# Altium integrated library GTC.IntLib: 39 symbols
Pins are listed as number, name and electrical type; pins without a type are passive.

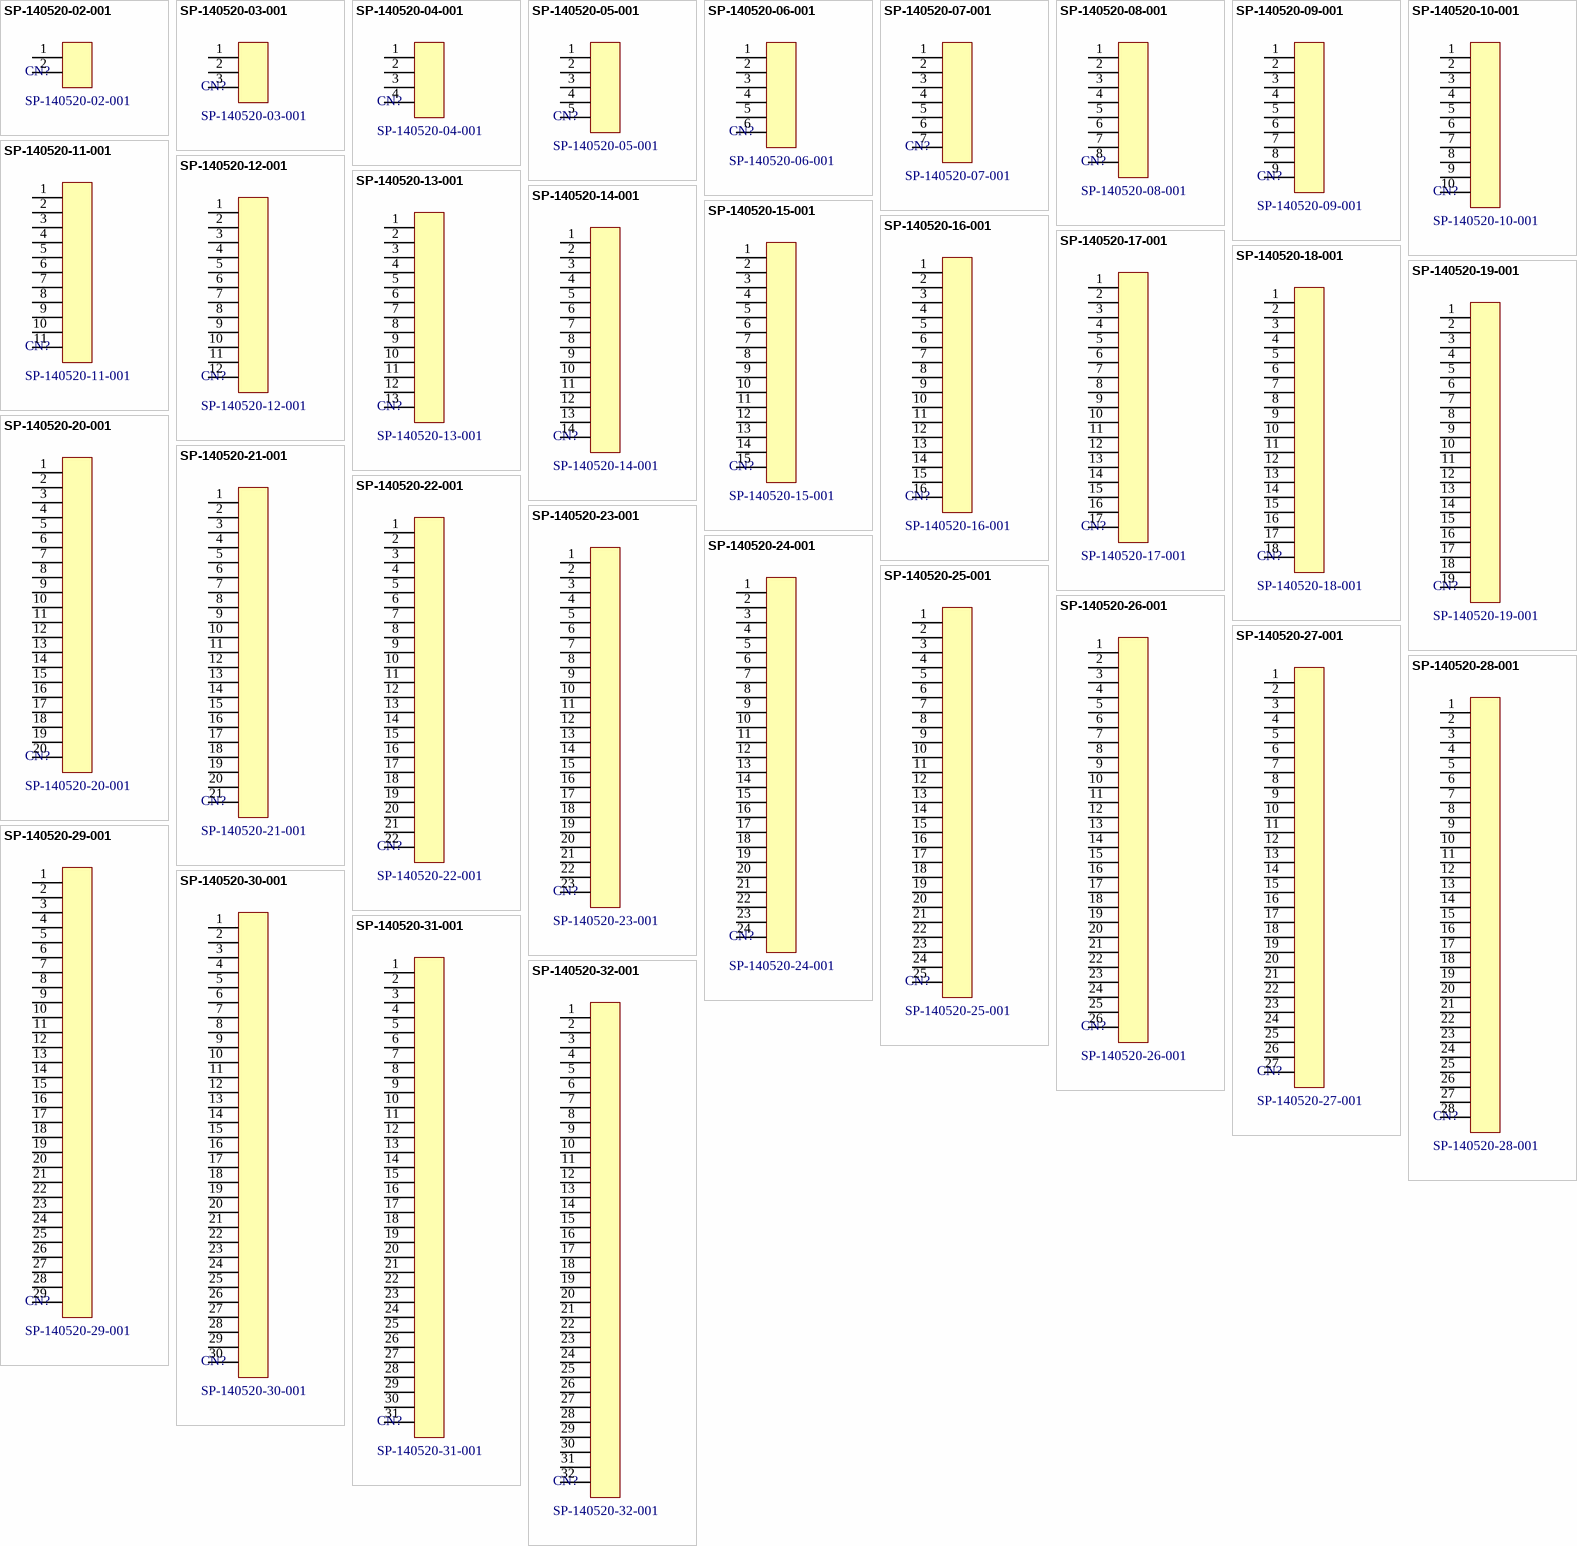
[diagram p0: symbols SP-140520-02-001 to SP-140520-32-001]

## SP-140520-02-001
designator CN?
2.54mm Pitch Socket, Single Row, Straight
footprint SP-140520-02-001 (CONN Breakaway Single Row)
pins: 1, 2

## SP-140520-03-001
designator CN?
2.54mm Pitch Socket, Single Row, Straight
footprint SP-140520-03-001 (CONN Breakaway Single Row)
pins: 1, 2, 3

## SP-140520-04-001
designator CN?
2.54mm Pitch Socket, Single Row, Straight
footprint SP-140520-04-001 (CONN Breakaway Single Row)
pins: 1, 2, 3, 4

## SP-140520-05-001
designator CN?
2.54mm Pitch Socket, Single Row, Straight
footprint SP-140520-05-001 (2.54mm Pitch Socket, Single Row, Straight)
pins: 1, 2, 3, 4, 5

## SP-140520-06-001
designator CN?
2.54mm Pitch Socket, Single Row, Straight
footprint SP-140520-06-001 (2.54mm Pitch Socket, Single Row, Straight)
pins: 1, 2, 3, 4, 5, 6

## SP-140520-07-001
designator CN?
2.54mm Pitch Socket, Single Row, Straight
footprint SP-140520-07-001 (2.54mm Pitch Socket, Single Row, Straight)
pins: 1, 2, 3, 4, 5, 6, 7

## SP-140520-08-001
designator CN?
2.54mm Pitch Socket, Single Row, Straight
footprint SP-140520-08-001 (2.54mm Pitch Socket, Single Row, Straight)
pins: 1, 2, 3, 4, 5, 6, 7, 8

## SP-140520-09-001
designator CN?
2.54mm Pitch Socket, Single Row, Straight
footprint SP-140520-09-001 (2.54mm Pitch Socket, Single Row, Straight)
pins: 1, 2, 3, 4, 5, 6, 7, 8, 9

## SP-140520-10-001
designator CN?
2.54mm Pitch Socket, Single Row, Straight
footprint SP-140520-10-001 (2.54mm Pitch Socket, Single Row, Straight)
pins: 1, 2, 3, 4, 5, 6, 7, 8, 9, 10

## SP-140520-11-001
designator CN?
2.54mm Pitch Socket, Single Row, Straight
footprint SP-140520-11-001 (2.54mm Pitch Socket, Single Row, Straight)
pins: 1, 2, 3, 4, 5, 6, 7, 8, 9, 10, 11

## SP-140520-12-001
designator CN?
2.54mm Pitch Socket, Single Row, Straight
footprint SP-140520-12-001 (2.54mm Pitch Socket, Single Row, Straight)
pins: 1, 2, 3, 4, 5, 6, 7, 8, 9, 10, 11, 12

## SP-140520-13-001
designator CN?
2.54mm Pitch Socket, Single Row, Straight
footprint SP-140520-13-001 (2.54mm Pitch Socket, Single Row, Straight)
pins: 1, 2, 3, 4, 5, 6, 7, 8, 9, 10, 11, 12, 13

## SP-140520-14-001
designator CN?
2.54mm Pitch Socket, Single Row, Straight
footprint SP-140520-14-001 (2.54mm Pitch Socket, Single Row, Straight)
pins: 1, 2, 3, 4, 5, 6, 7, 8, 9, 10, 11, 12, 13, 14

## SP-140520-15-001
designator CN?
2.54mm Pitch Socket, Single Row, Straight
footprint SP-140520-15-001 (2.54mm Pitch Socket, Single Row, Straight)
pins: 1, 2, 3, 4, 5, 6, 7, 8, 9, 10, 11, 12, 13, 14, 15

## SP-140520-16-001
designator CN?
2.54mm Pitch Socket, Single Row, Straight
footprint SP-140520-16-001 (2.54mm Pitch Socket, Single Row, Straight)
pins: 1, 2, 3, 4, 5, 6, 7, 8, 9, 10, 11, 12, 13, 14, 15, 16

## SP-140520-17-001
designator CN?
2.54mm Pitch Socket, Single Row, Straight
footprint SP-140520-17-001 (2.54mm Pitch Socket, Single Row, Straight)
pins: 1, 2, 3, 4, 5, 6, 7, 8, 9, 10, 11, 12, 13, 14, 15, 16, 17

## SP-140520-18-001
designator CN?
2.54mm Pitch Socket, Single Row, Straight
footprint SP-140520-18-001 (2.54mm Pitch Socket, Single Row, Straight)
pins: 1, 2, 3, 4, 5, 6, 7, 8, 9, 10, 11, 12, 13, 14, 15, 16, 17, 18

## SP-140520-19-001
designator CN?
2.54mm Pitch Socket, Single Row, Straight
footprint SP-140520-19-001 (2.54mm Pitch Socket, Single Row, Straight)
pins: 1, 2, 3, 4, 5, 6, 7, 8, 9, 10, 11, 12, 13, 14, 15, 16, 17, 18, 19

## SP-140520-20-001
designator CN?
2.54mm Pitch Socket, Single Row, Straight
footprint SP-140520-20-001 (2.54mm Pitch Socket, Single Row, Straight)
pins: 1, 2, 3, 4, 5, 6, 7, 8, 9, 10, 11, 12, 13, 14, 15, 16, 17, 18, 19, 20

## SP-140520-21-001
designator CN?
2.54mm Pitch Socket, Single Row, Straight
footprint SP-140520-21-001 (2.54mm Pitch Socket, Single Row, Straight)
pins: 1, 2, 3, 4, 5, 6, 7, 8, 9, 10, 11, 12, 13, 14, 15, 16, 17, 18, 19, 20, 21

## SP-140520-22-001
designator CN?
2.54mm Pitch Socket, Single Row, Straight
footprint SP-140520-22-001 (2.54mm Pitch Socket, Single Row, Straight)
pins: 1, 2, 3, 4, 5, 6, 7, 8, 9, 10, 11, 12, 13, 14, 15, 16, 17, 18, 19, 20, 21, 22

## SP-140520-23-001
designator CN?
2.54mm Pitch Socket, Single Row, Straight
footprint SP-140520-23-001 (2.54mm Pitch Socket, Single Row, Straight)
pins: 1, 2, 3, 4, 5, 6, 7, 8, 9, 10, 11, 12, 13, 14, 15, 16, 17, 18, 19, 20, 21, 22, 23

## SP-140520-24-001
designator CN?
2.54mm Pitch Socket, Single Row, Straight
footprint SP-140520-24-001 (2.54mm Pitch Socket, Single Row, Straight)
pins: 1, 2, 3, 4, 5, 6, 7, 8, 9, 10, 11, 12, 13, 14, 15, 16, 17, 18, 19, 20, 21, 22, 23, 24

## SP-140520-25-001
designator CN?
2.54mm Pitch Socket, Single Row, Straight
footprint SP-140520-25-001 (2.54mm Pitch Socket, Single Row, Straight)
pins: 1, 2, 3, 4, 5, 6, 7, 8, 9, 10, 11, 12, 13, 14, 15, 16, 17, 18, 19, 20, 21, 22, 23, 24, 25

## SP-140520-26-001
designator CN?
2.54mm Pitch Socket, Single Row, Straight
footprint SP-140520-26-001 (2.54mm Pitch Socket, Single Row, Straight)
pins: 1, 2, 3, 4, 5, 6, 7, 8, 9, 10, 11, 12, 13, 14, 15, 16, 17, 18, 19, 20, 21, 22, 23, 24, 25, 26

## SP-140520-27-001
designator CN?
2.54mm Pitch Socket, Single Row, Straight
footprint SP-140520-27-001 (2.54mm Pitch Socket, Single Row, Straight)
pins: 1, 2, 3, 4, 5, 6, 7, 8, 9, 10, 11, 12, 13, 14, 15, 16, 17, 18, 19, 20, 21, 22, 23, 24, 25, 26, 27

## SP-140520-28-001
designator CN?
2.54mm Pitch Socket, Single Row, Straight
footprint SP-140520-28-001 (2.54mm Pitch Socket, Single Row, Straight)
pins: 1, 2, 3, 4, 5, 6, 7, 8, 9, 10, 11, 12, 13, 14, 15, 16, 17, 18, 19, 20, 21, 22, 23, 24, 25, 26, 27, 28

## SP-140520-29-001
designator CN?
2.54mm Pitch Socket, Single Row, Straight
footprint SP-140520-29-001 (2.54mm Pitch Socket, Single Row, Straight)
pins: 1, 2, 3, 4, 5, 6, 7, 8, 9, 10, 11, 12, 13, 14, 15, 16, 17, 18, 19, 20, 21, 22, 23, 24, 25, 26, 27, 28, 29

## SP-140520-30-001
designator CN?
2.54mm Pitch Socket, Single Row, Straight
footprint SP-140520-30-001 (2.54mm Pitch Socket, Single Row, Straight)
pins: 1, 2, 3, 4, 5, 6, 7, 8, 9, 10, 11, 12, 13, 14, 15, 16, 17, 18, 19, 20, 21, 22, 23, 24, 25, 26, 27, 28, 29, 30

## SP-140520-31-001
designator CN?
2.54mm Pitch Socket, Single Row, Straight
footprint SP-140520-31-001 (2.54mm Pitch Socket, Single Row, Straight)
pins: 1, 2, 3, 4, 5, 6, 7, 8, 9, 10, 11, 12, 13, 14, 15, 16, 17, 18, 19, 20, 21, 22, 23, 24, 25, 26, 27, 28, 29, 30, 31

## SP-140520-32-001
designator CN?
2.54mm Pitch Socket, Single Row, Straight
footprint SP-140520-32-001 (2.54mm Pitch Socket, Single Row, Straight)
pins: 1, 2, 3, 4, 5, 6, 7, 8, 9, 10, 11, 12, 13, 14, 15, 16, 17, 18, 19, 20, 21, 22, 23, 24, 25, 26, 27, 28, 29, 30, 31, 32

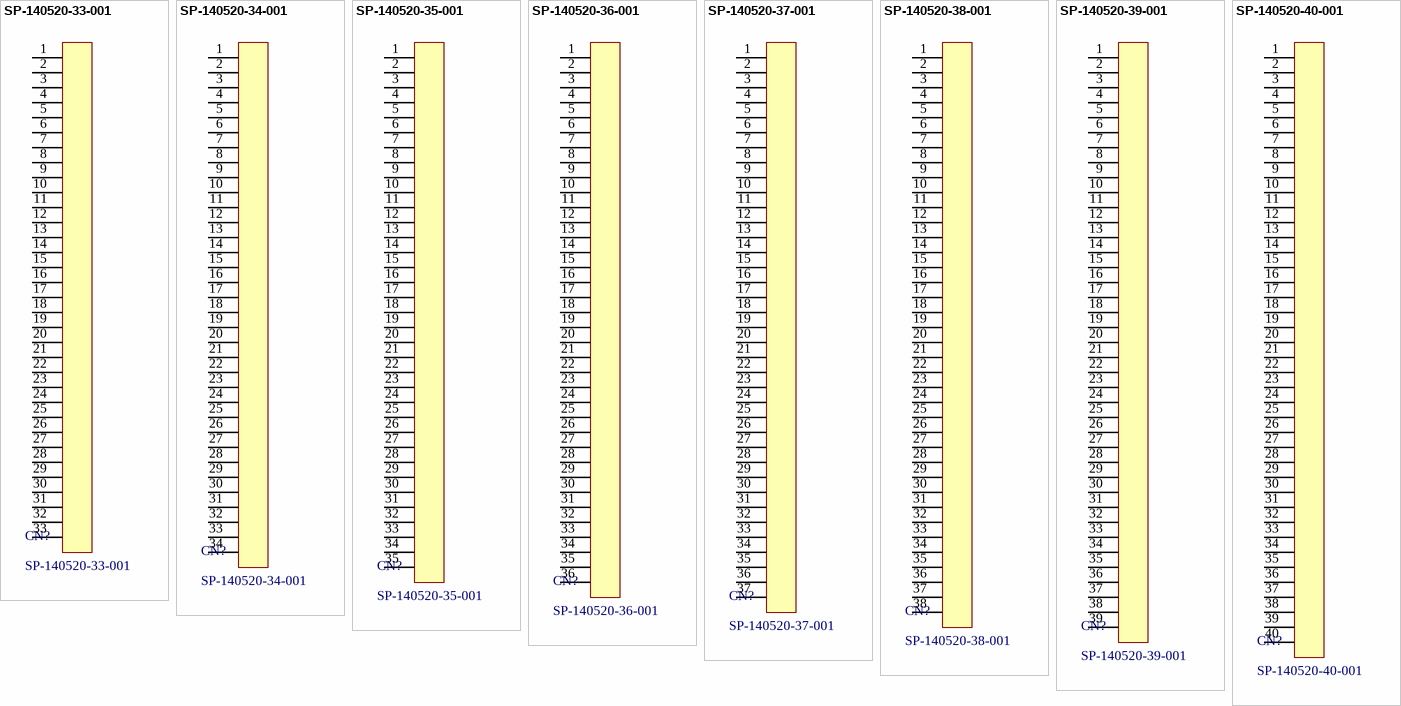
[diagram p1: symbols SP-140520-33-001 to SP-140520-40-001]

## SP-140520-33-001
designator CN?
2.54mm Pitch Socket, Single Row, Straight
footprint SP-140520-33-001 (2.54mm Pitch Socket, Single Row, Straight)
pins: 1, 2, 3, 4, 5, 6, 7, 8, 9, 10, 11, 12, 13, 14, 15, 16, 17, 18, 19, 20, 21, 22, 23, 24, 25, 26, 27, 28, 29, 30, 31, 32, 33

## SP-140520-34-001
designator CN?
2.54mm Pitch Socket, Single Row, Straight
footprint SP-140520-34-001 (2.54mm Pitch Socket, Single Row, Straight)
pins: 1, 2, 3, 4, 5, 6, 7, 8, 9, 10, 11, 12, 13, 14, 15, 16, 17, 18, 19, 20, 21, 22, 23, 24, 25, 26, 27, 28, 29, 30, 31, 32, 33, 34

## SP-140520-35-001
designator CN?
2.54mm Pitch Socket, Single Row, Straight
footprint SP-140520-35-001 (2.54mm Pitch Socket, Single Row, Straight)
pins: 1, 2, 3, 4, 5, 6, 7, 8, 9, 10, 11, 12, 13, 14, 15, 16, 17, 18, 19, 20, 21, 22, 23, 24, 25, 26, 27, 28, 29, 30, 31, 32, 33, 34, 35

## SP-140520-36-001
designator CN?
2.54mm Pitch Socket, Single Row, Straight
footprint SP-140520-36-001 (2.54mm Pitch Socket, Single Row, Straight)
pins: 1, 2, 3, 4, 5, 6, 7, 8, 9, 10, 11, 12, 13, 14, 15, 16, 17, 18, 19, 20, 21, 22, 23, 24, 25, 26, 27, 28, 29, 30, 31, 32, 33, 34, 35, 36

## SP-140520-37-001
designator CN?
2.54mm Pitch Socket, Single Row, Straight
footprint SP-140520-37-001 (2.54mm Pitch Socket, Single Row, Straight)
pins: 1, 2, 3, 4, 5, 6, 7, 8, 9, 10, 11, 12, 13, 14, 15, 16, 17, 18, 19, 20, 21, 22, 23, 24, 25, 26, 27, 28, 29, 30, 31, 32, 33, 34, 35, 36, 37

## SP-140520-38-001
designator CN?
2.54mm Pitch Socket, Single Row, Straight
footprint SP-140520-38-001 (2.54mm Pitch Socket, Single Row, Straight)
pins: 1, 2, 3, 4, 5, 6, 7, 8, 9, 10, 11, 12, 13, 14, 15, 16, 17, 18, 19, 20, 21, 22, 23, 24, 25, 26, 27, 28, 29, 30, 31, 32, 33, 34, 35, 36, 37, 38

## SP-140520-39-001
designator CN?
2.54mm Pitch Socket, Single Row, Straight
footprint SP-140520-39-001 (2.54mm Pitch Socket, Single Row, Straight)
pins: 1, 2, 3, 4, 5, 6, 7, 8, 9, 10, 11, 12, 13, 14, 15, 16, 17, 18, 19, 20, 21, 22, 23, 24, 25, 26, 27, 28, 29, 30, 31, 32, 33, 34, 35, 36, 37, 38, 39

## SP-140520-40-001
designator CN?
2.54mm Pitch Socket, Single Row, Straight
footprint SP-140520-40-001 (2.54mm Pitch Socket, Single Row, Straight)
pins: 1, 2, 3, 4, 5, 6, 7, 8, 9, 10, 11, 12, 13, 14, 15, 16, 17, 18, 19, 20, 21, 22, 23, 24, 25, 26, 27, 28, 29, 30, 31, 32, 33, 34, 35, 36, 37, 38, 39, 40